# Altium schematic symbol library MA505.SchLib: 1 symbol
Pins are listed as number, name and electrical type; pins without a type are passive.

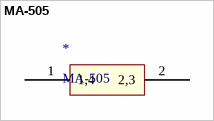
[diagram p0: symbol MA-505]

## MA-505
designator *
footprint CAPC15256X06N (Chip Capacitor, 2-Leads, Body 15.20x5.60mm, IPC Medium Density)
pins: 1 1,4, 2 2,3